# Altium schematic symbol library SRN6045TA-3R3Y.SchLib: 1 symbol
Pins are listed as number, name and electrical type; pins without a type are passive.

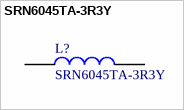
[diagram p0: symbol SRN6045TA-3R3Y]

## SRN6045TA-3R3Y
designator L?
BOURNS - SRN6045TA-3R3Y - INDUCTOR, AEC-Q200, 3.3UH, 5A, 30% Semi-shielded Power Inductors; Geometry.Height: 4.5mm; Manufacturer_Name: Bourns; Manufacturer_Part_Number: SRN6045TA-3R3Y; Mouser Part Number: 652-SRN6045TA-3R3Y; Mouser Price/Stock: https://www.mouser.co.uk/ProductDetail/Bourns/SRN6045TA-3R3Y?qs=Vt59ZOdFuWZ4MyJAxNBCDg%3D%3D; Arrow Part Number: SRN6045TA-3R3Y; Arrow Price/Stock: https://www.arrow.com/en/products/srn6045ta-3r3y/bourns?utm_currency=USD&region=europe; Datasheet Link: http://www.bourns.com/docs/Product-Datasheets/SRN6045TA.pdf
footprint SRN6045TA330M
pins: 1, 2